# Altium schematic symbol library crystal.SchLib: 1 symbol
Pins are listed as number, name and electrical type; pins without a type are passive.

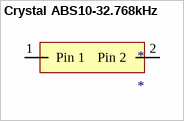
[diagram p0: symbol Crystal ABS10-32.768kHz]

## Crystal ABS10-32.768kHz
designator *
footprint crystal-ABS10-32.768KHZ-T
pins: 1 Pin 1, 2 Pin 2